# Altium schematic symbol library Microchip Interface.SchLib: 180 symbols (part 6 of 6)
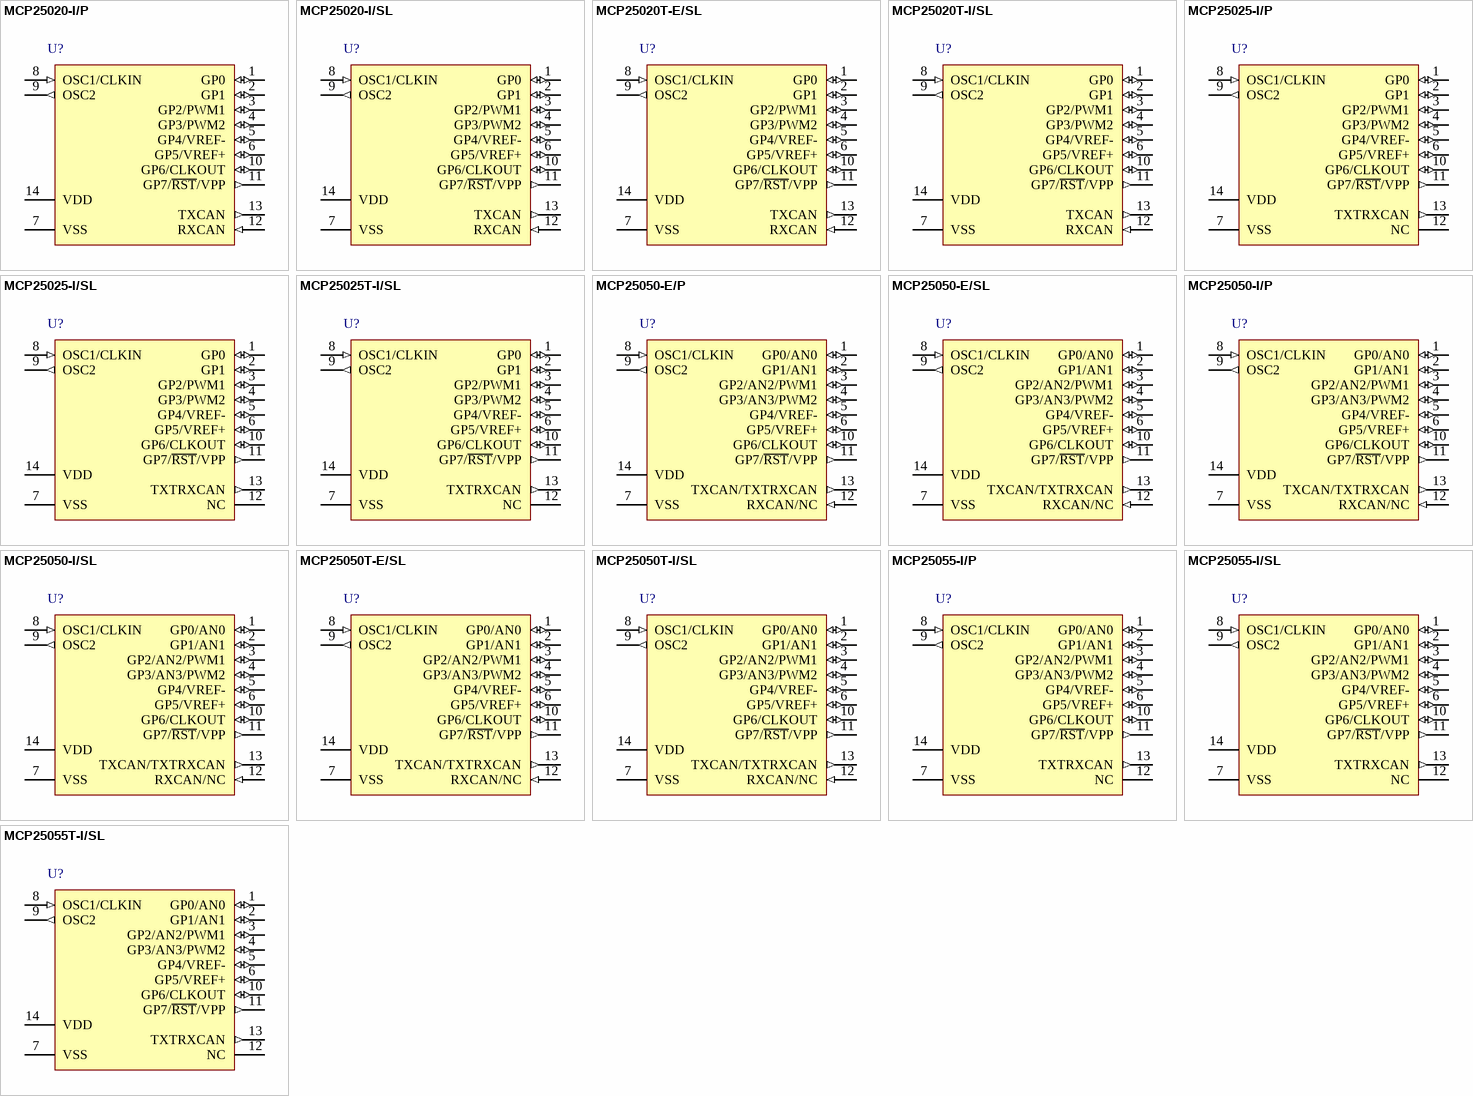
[diagram p13: symbols MCP25020-I/P to MCP25055T-I/SL]

## MCP25055-I/SL
designator U?
CAN I/O Expander Family, 10-Bit A/D, One Wire Digital CANbus, 14-Pin SOIC, Industrial Temperature; Published: 29-Jan-2009; DatasheetVersion: revD, Jan-2007; PackageVersion: revBB, Aug-2009; PackageReference: SOIC-SL14; Publisher: Altium Limited; PackageDescription: 14-Lead Plastic Small Outline (SL) - Narrow, 3.90mm Body [SOIC]; Supplier 1: Digi-Key; Supplier Part Number 1: MCP25055-I/SL-ND; Code_JEDEC: MS-012-AB; Code_IPC: SOIC127P600-14; ComponentLink1Description: Datasheet; ComponentLink1URL: http://ww1.microchip.com/downloads/en/DeviceDoc/21664D.pdf; ComponentLink2Description: Packaging Specification; ComponentLink2URL: http://www.microchip.com/stellent/groups/techpub_sg/documents/packagingspec/en012702.pdf; ComponentLink3Description: Microchip.com Home; ComponentLink3URL: http://www.microchip.com/
footprint SOIC-SL14_N (SOIC, 14-Leads, Body 8.7x3.9mm, Pitch 1.27mm, IPC Medium Density)
footprint SOIC-SL14_L (SOIC, 14-Leads, Body 8.7x3.9mm, Pitch 1.27mm, IPC High Density)
footprint SOIC-SL14_M (SOIC, 14-Leads, Body 8.7x3.9mm, Pitch 1.27mm, IPC Low Density)
pins: 1 GP0/AN0 (io), 2 GP1/AN1 (io), 3 GP2/AN2/PWM1 (io), 4 GP3/AN3/PWM2 (io), 5 GP4/VREF- (io), 6 GP5/VREF+ (io), 7 VSS (power), 8 OSC1/CLKIN (in), 9 OSC2 (out), 10 GP6/CLKOUT (io), 11 GP7/~{RST}/VPP (out), 12 NC, 13 TXTRXCAN (out), 14 VDD (power)

## MCP25055T-I/SL
designator U?
CAN I/O Expander Family, 10-Bit A/D, One Wire Digital CANbus, 14-Pin SOIC, Industrial Temperature, Tape and Reel; Published: 29-Jan-2009; DatasheetVersion: revD, Jan-2007; PackageVersion: revBB, Aug-2009; PackageReference: SOIC-SL14; Publisher: Altium Limited; PackageDescription: 14-Lead Plastic Small Outline (SL) - Narrow, 3.90mm Body [SOIC]; Supplier 1: Digi-Key; Supplier Part Number 1: MCP25055T-I/SL-ND; Code_JEDEC: MS-012-AB; Code_IPC: SOIC127P600-14; ComponentLink1Description: Datasheet; ComponentLink1URL: http://ww1.microchip.com/downloads/en/DeviceDoc/21664D.pdf; ComponentLink2Description: Packaging Specification; ComponentLink2URL: http://www.microchip.com/stellent/groups/techpub_sg/documents/packagingspec/en012702.pdf; ComponentLink3Description: Microchip.com Home; ComponentLink3URL: http://www.microchip.com/
footprint SOIC-SL14_N (SOIC, 14-Leads, Body 8.7x3.9mm, Pitch 1.27mm, IPC Medium Density)
footprint SOIC-SL14_L (SOIC, 14-Leads, Body 8.7x3.9mm, Pitch 1.27mm, IPC High Density)
footprint SOIC-SL14_M (SOIC, 14-Leads, Body 8.7x3.9mm, Pitch 1.27mm, IPC Low Density)
pins: 1 GP0/AN0 (io), 2 GP1/AN1 (io), 3 GP2/AN2/PWM1 (io), 4 GP3/AN3/PWM2 (io), 5 GP4/VREF- (io), 6 GP5/VREF+ (io), 7 VSS (power), 8 OSC1/CLKIN (in), 9 OSC2 (out), 10 GP6/CLKOUT (io), 11 GP7/~{RST}/VPP (out), 12 NC, 13 TXTRXCAN (out), 14 VDD (power)